# EAGLE library part IRF7307 (library IRF7307)
Power MOSFET Source: Datasheet <https://www.infineon.com/cms/en/product/power/mosfet/20v-60v-complementary-mosfet/irf7307/#document-group-myInfineon-49>
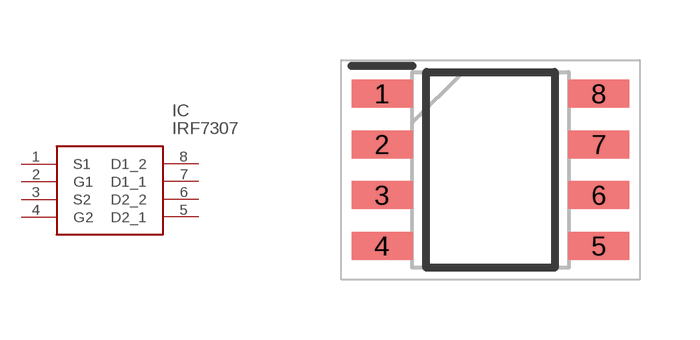
[diagram p0: symbol with the pads of SOIC127P600X175-8N; footprint SOIC127P600X175-8N]

Designator prefix IC

## IRF7307 (Description: Power MOSFET; Height: 1.75mm; Manufacturer_Name: Infineon; Manufacturer_Part_Number: IRF7307)  [SOIC127P600X175-8N]
1  S1
2  G1
3  S2
4  G2
5  D2_1
6  D2_2
7  D1_1
8  D1_2

## Footprint SOIC127P600X175-8N (pad centres in mm)
SO-8
smd 1.525 x 0.7: 1 -2.712,1.905; 2 -2.712,0.635; 3 -2.712,-0.635; 4 -2.712,-1.905; 5 2.712,-1.905; 6 2.712,-0.635; 7 2.712,0.635; 8 2.712,1.905